# Altium footprint library MornSum.PcbLib: 4 footprints
Each footprint in its own frame and in the unit in brackets; x right, y up, seen from the top. Pads: shape width x height; smd on the part's side, far side on the other; paste and mask are expansions set on the pad; w line width, h text height; cw(c..) or ccw(c..) is an arc to the next point about the centre after c.
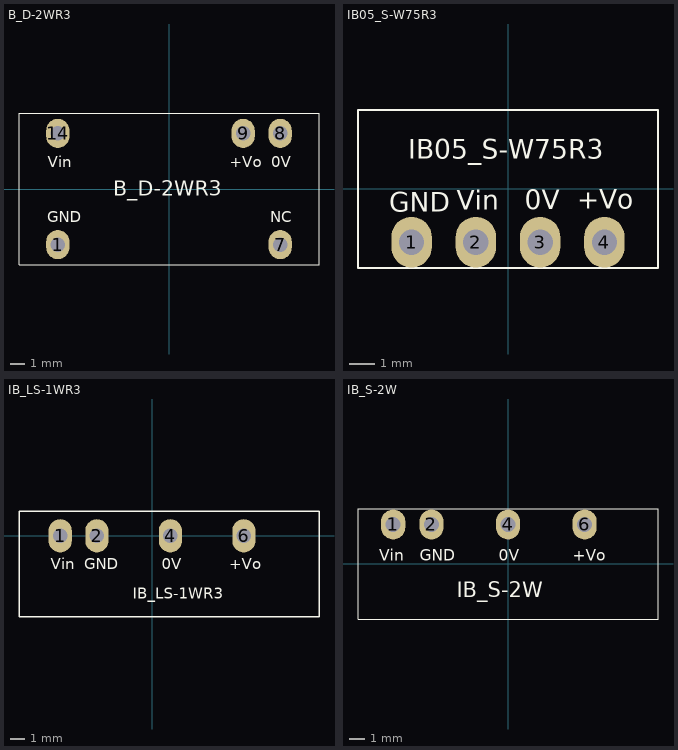
[diagram p0: the footprints below, top view; thin cyan lines are the x and y axes]

## B_D-2WR3 [mm]
pads (5):
  oval 1.6x2 hole 1: 1(-7.62,-3.81) 7(7.62,-3.81) 8(7.62,3.81) 9(5.08,3.81) 14(-7.62,3.81)
Top Overlay:
  lines w0.076: -10.285,-5.205 10.285,-5.205 10.285,5.205 -10.285,5.205 -10.285,-5.205
  text "B_D-2WR3" at -3.809,-0.475 h1.02
  text "NC" at 6.936,-2.268 h0.76
  text "Vin" at -8.32,1.491 h0.76
  text "GND" at -8.364,-2.268 h0.76
  text "0V" at 7.027,1.491 h0.76
  text "+Vo" at 4.16,1.491 h0.76

## IB05_S-W75R3 [mm]
pads (4):
  oval 1.6x2 hole 1: 1(-3.81,-2.1) 2(-1.27,-2.1) 3(1.27,-2.1) 4(3.81,-2.1)
Top Overlay:
  lines w0.076: -5.925,-3.125 -5.925,3.125 5.925,3.125 5.925,-3.125 -5.925,-3.125
  text "+Vo" at 2.726,-0.779 h0.76
  text "0V" at 0.655,-0.804 h0.76
  text "Vin" at -2.025,-0.82 h0.76
  text "GND" at -4.697,-0.894 h0.76
  text "IB05_S-W75R3" at -3.944,1.196 h0.76

## IB_LS-1WR3 [mm]
pads (4):
  oval 1.6x2.3 hole 1: 1(-6.35,0) 2(-3.81,0) 4(1.27,0) 6(6.35,0)
Top Overlay:
  lines w0.102: -9.2,-5.6 11.55,-5.6 11.55,1.7 -9.2,1.7 -9.2,-5.6
  text "IB_LS-1WR3" at -1.332,-4.346 h0.76
  text "Vin" at -7.014,-2.308 h0.76
  text "GND" at -4.699,-2.308 h0.76
  text "0V" at 0.684,-2.308 h0.76
  text "+Vo" at 5.337,-2.308 h0.76

## IB_S-2W [mm]
pads (4):
  oval 1.6x2 hole 1: 1(-7.615,2.625) 2(-5.075,2.625) 4(0.005,2.625) 6(5.085,2.625)
Top Overlay:
  lines w0.076: -9.95,-3.65 -9.95,3.65 9.95,3.65 9.95,-3.65 -9.95,-3.65
  text "IB_S-2W" at -3.384,-2.214 h1.02
  text "+Vo" at 4.288,0.221 h0.76
  text "0V" at -0.605,0.221 h0.76
  text "GND" at -5.84,0.221 h0.76
  text "Vin" at -8.527,0.221 h0.76